# Altium integrated library Analog Devices Temperature Sensors.IntLib: 271 symbols (part 1 of 14)
Pins are listed as number, name and electrical type; pins without a type are passive.

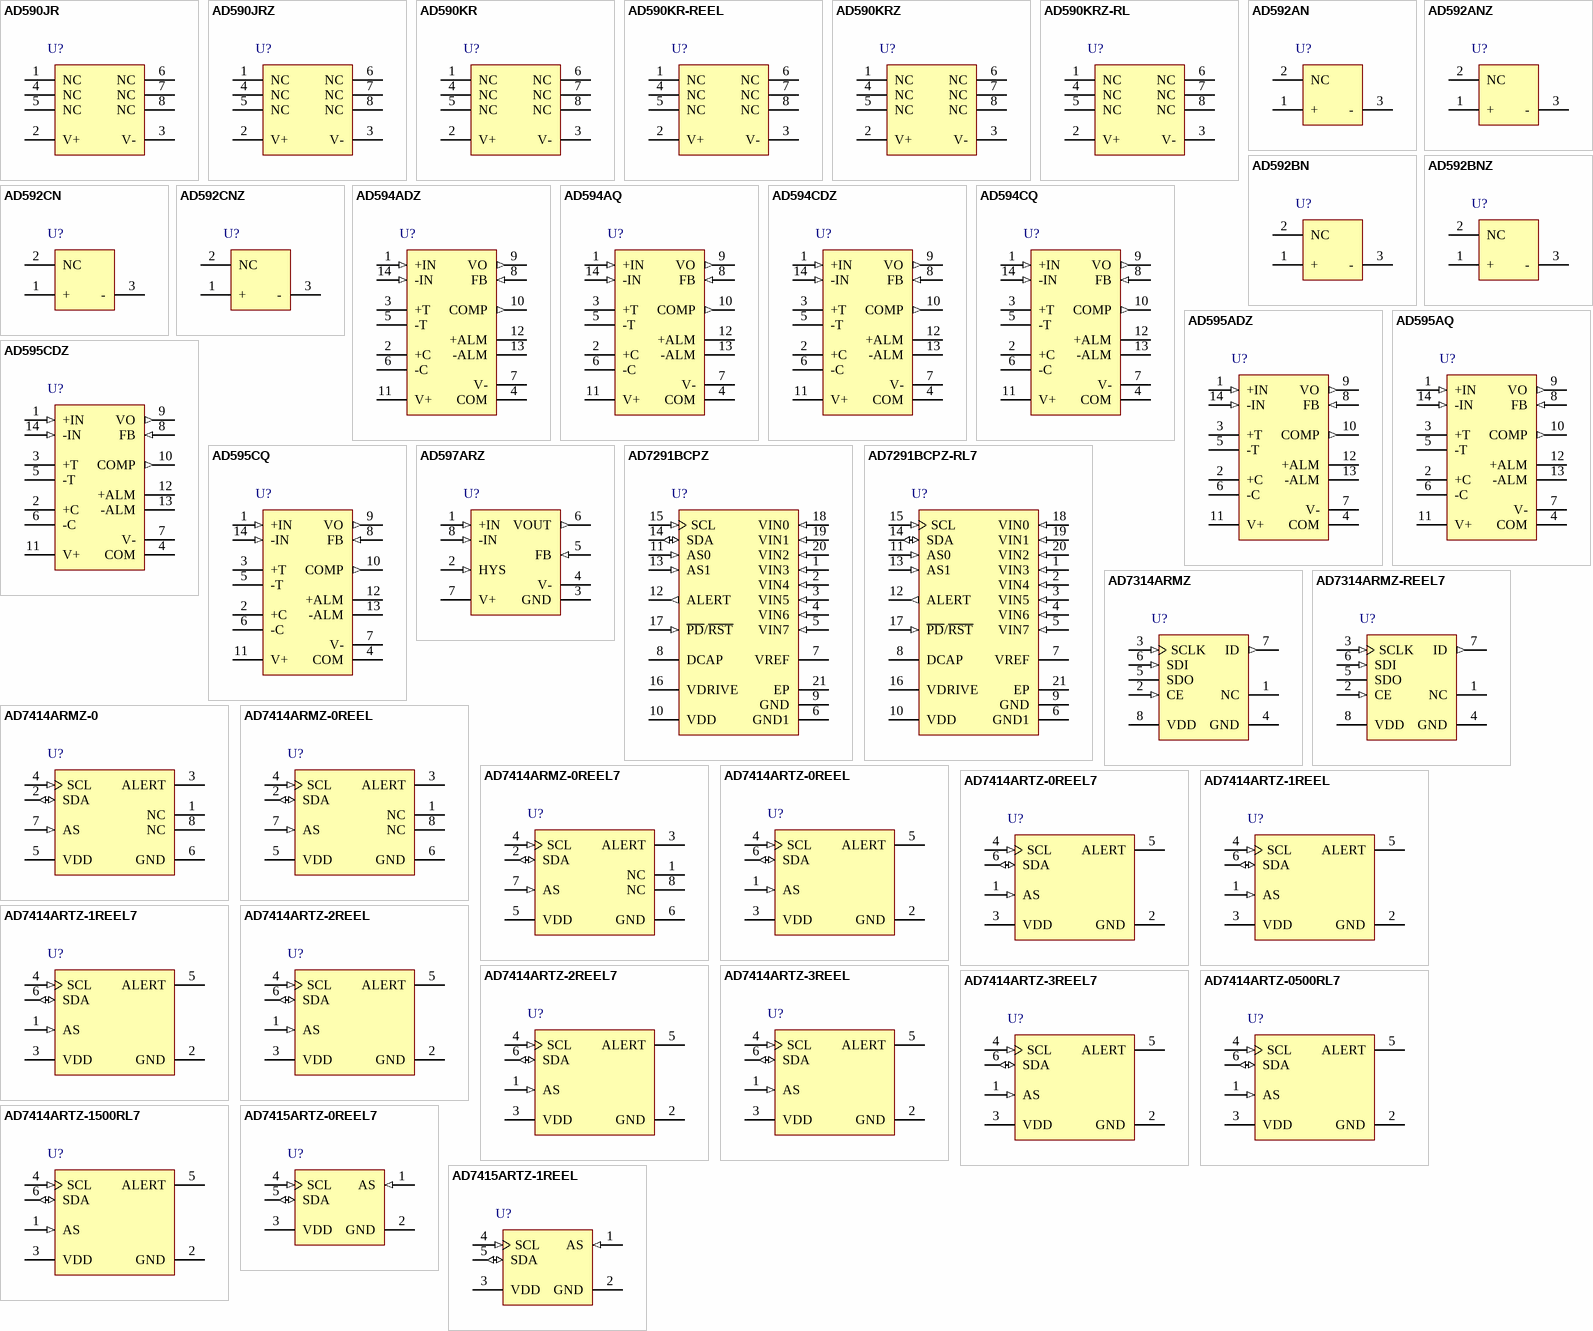
[diagram p0: symbols AD590JR to AD7415ARTZ-1REEL]

## AD590JR
designator U?
2-Terminal IC Temperature Transducer, 4 to 30 V Supply, Military, 8-pin SOIC (R-8), Tube; Manufacturer: Analog Devices; PartNumber: AD590JR; Supply Voltage Range: 4 to 30 V; DatasheetVersion: Rev. G; PackageVersion: 060506-A, 06/2006; PackageReference: R-8; PackageDescription: 8-Pin Standard Small Outline Package, Body 4.9 x 3.9 mm, Pitch 1.27 mm; Supplier 1: Digi-Key; Supplier Part Number 1: AD590JR-ND; Supplier 2: Mouser; Supplier Part Number 2: 584-AD590JR; Packing: Tube; Mounting Technology: Surface Mount; Code_JEDEC: MS-012-AA; ComponentLink1Description: Manufacturer URL; ComponentLink1URL: http://www.analog.com/en/index.html; ComponentLink2Description: Datasheet; ComponentLink2URL: http://www.analog.com/static/imported-files/data_sheets/AD590.pdf; ComponentLink3Description: Package Specification; ComponentLink3URL: http://www.analog.com/static/imported-files/packages/PKG_PDF/SOIC_Narrow%20(R)/R_8.pdf; ComponentLink4Description: Product URL; ComponentLink4URL: http://www.analog.com/en/mems-sensors/digital-temperature-sensors/ad590/products/product.html
footprint ADI-R-8_N (SOIC, 8-Leads, Body 4.9x3.9mm, Pitch 1.27mm, IPC Medium Density)
footprint ADI-R-8_L (SOIC, 8-Leads, Body 4.9x3.9mm, Pitch 1.27mm, IPC High Density)
footprint ADI-R-8_M (SOIC, 8-Leads, Body 4.9x3.9mm, Pitch 1.27mm, IPC Low Density)
pins: 1 NC, 2 V+, 3 V-, 4 NC, 5 NC, 6 NC, 7 NC, 8 NC

## AD590JRZ
designator U?
2-Terminal IC Temperature Transducer, 4 to 30 V Supply, Military, 8-pin SOIC (R-8), Tube; Manufacturer: Analog Devices; PartNumber: AD590JRZ; Supply Voltage Range: 4 to 30 V; DatasheetVersion: Rev. G; PackageVersion: 060506-A, 06/2006; PackageReference: R-8; PackageDescription: 8-Pin Standard Small Outline Package, Body 4.9 x 3.9 mm, Pitch 1.27 mm; Supplier 1: Digi-Key; Supplier Part Number 1: AD590JRZ-ND; Supplier 2: Farnell; Supplier Part Number 2: 1699553; Supplier 3: Newark; Supplier Part Number 3: 29M8422; Supplier 4: Mouser; Supplier Part Number 4: 584-AD590JRZ; Packing: Tube; Mounting Technology: Surface Mount; Code_JEDEC: MS-012-AA; ComponentLink1Description: Manufacturer URL; ComponentLink1URL: http://www.analog.com/en/index.html; ComponentLink2Description: Datasheet; ComponentLink2URL: http://www.analog.com/static/imported-files/data_sheets/AD590.pdf; ComponentLink3Description: Package Specification; ComponentLink3URL: http://www.analog.com/static/imported-files/packages/PKG_PDF/SOIC_Narrow%20(R)/R_8.pdf; ComponentLink4Description: Product URL; ComponentLink4URL: http://www.analog.com/en/mems-sensors/digital-temperature-sensors/ad590/products/product.html
footprint ADI-R-8_N (SOIC, 8-Leads, Body 4.9x3.9mm, Pitch 1.27mm, IPC Medium Density)
footprint ADI-R-8_L (SOIC, 8-Leads, Body 4.9x3.9mm, Pitch 1.27mm, IPC High Density)
footprint ADI-R-8_M (SOIC, 8-Leads, Body 4.9x3.9mm, Pitch 1.27mm, IPC Low Density)
pins: 1 NC, 2 V+, 3 V-, 4 NC, 5 NC, 6 NC, 7 NC, 8 NC

## AD590KR
designator U?
2-Terminal IC Temperature Transducer, 4 to 30 V Supply, Military, 8-pin SOIC (R-8), Tube; Manufacturer: Analog Devices; PartNumber: AD590KR; Supply Voltage Range: 4 to 30 V; DatasheetVersion: Rev. G; PackageVersion: 060506-A, 06/2006; PackageReference: R-8; PackageDescription: 8-Pin Standard Small Outline Package, Body 4.9 x 3.9 mm, Pitch 1.27 mm; Supplier 1: Digi-Key; Supplier Part Number 1: AD590KR-ND; Supplier 2: Mouser; Supplier Part Number 2: 584-AD590KR; Packing: Tube; Mounting Technology: Surface Mount; Code_JEDEC: MS-012-AA; ComponentLink1Description: Manufacturer URL; ComponentLink1URL: http://www.analog.com/en/index.html; ComponentLink2Description: Datasheet; ComponentLink2URL: http://www.analog.com/static/imported-files/data_sheets/AD590.pdf; ComponentLink3Description: Package Specification; ComponentLink3URL: http://www.analog.com/static/imported-files/packages/PKG_PDF/SOIC_Narrow%20(R)/R_8.pdf; ComponentLink4Description: Product URL; ComponentLink4URL: http://www.analog.com/en/mems-sensors/digital-temperature-sensors/ad590/products/product.html
footprint ADI-R-8_N (SOIC, 8-Leads, Body 4.9x3.9mm, Pitch 1.27mm, IPC Medium Density)
footprint ADI-R-8_L (SOIC, 8-Leads, Body 4.9x3.9mm, Pitch 1.27mm, IPC High Density)
footprint ADI-R-8_M (SOIC, 8-Leads, Body 4.9x3.9mm, Pitch 1.27mm, IPC Low Density)
pins: 1 NC, 2 V+, 3 V-, 4 NC, 5 NC, 6 NC, 7 NC, 8 NC

## AD590KR-REEL
designator U?
2-Terminal IC Temperature Transducer, 4 to 30 V Supply, Military, 8-pin SOIC (R-8), Reel; Manufacturer: Analog Devices; PartNumber: AD590KR-REEL; Supply Voltage Range: 4 to 30 V; DatasheetVersion: Rev. G; PackageVersion: 060506-A, 06/2006; PackageReference: R-8; PackageDescription: 8-Pin Standard Small Outline Package, Body 4.9 x 3.9 mm, Pitch 1.27 mm; Supplier 1: Mouser; Supplier Part Number 1: N/A; Packing: Reel; Mounting Technology: Surface Mount; Code_JEDEC: MS-012-AA; ComponentLink1Description: Manufacturer URL; ComponentLink1URL: http://www.analog.com/en/index.html; ComponentLink2Description: Datasheet; ComponentLink2URL: http://www.analog.com/static/imported-files/data_sheets/AD590.pdf; ComponentLink3Description: Package Specification; ComponentLink3URL: http://www.analog.com/static/imported-files/packages/PKG_PDF/SOIC_Narrow%20(R)/R_8.pdf; ComponentLink4Description: Product URL; ComponentLink4URL: http://www.analog.com/en/mems-sensors/digital-temperature-sensors/ad590/products/product.html
footprint ADI-R-8_N (SOIC, 8-Leads, Body 4.9x3.9mm, Pitch 1.27mm, IPC Medium Density)
footprint ADI-R-8_L (SOIC, 8-Leads, Body 4.9x3.9mm, Pitch 1.27mm, IPC High Density)
footprint ADI-R-8_M (SOIC, 8-Leads, Body 4.9x3.9mm, Pitch 1.27mm, IPC Low Density)
pins: 1 NC, 2 V+, 3 V-, 4 NC, 5 NC, 6 NC, 7 NC, 8 NC

## AD590KRZ
designator U?
2-Terminal IC Temperature Transducer, 4 to 30 V Supply, Military, 8-pin SOIC (R-8), Tube; Manufacturer: Analog Devices; PartNumber: AD590KRZ; Supply Voltage Range: 4 to 30 V; DatasheetVersion: Rev. G; PackageVersion: 060506-A, 06/2006; PackageReference: R-8; PackageDescription: 8-Pin Standard Small Outline Package, Body 4.9 x 3.9 mm, Pitch 1.27 mm; Supplier 1: Digi-Key; Supplier Part Number 1: AD590KRZ-ND; Supplier 2: Newark; Supplier Part Number 2: 27M3832; Supplier 3: Mouser; Supplier Part Number 3: 584-AD590KRZ; Packing: Tube; Mounting Technology: Surface Mount; Code_JEDEC: MS-012-AA; ComponentLink1Description: Manufacturer URL; ComponentLink1URL: http://www.analog.com/en/index.html; ComponentLink2Description: Datasheet; ComponentLink2URL: http://www.analog.com/static/imported-files/data_sheets/AD590.pdf; ComponentLink3Description: Package Specification; ComponentLink3URL: http://www.analog.com/static/imported-files/packages/PKG_PDF/SOIC_Narrow%20(R)/R_8.pdf; ComponentLink4Description: Product URL; ComponentLink4URL: http://www.analog.com/en/mems-sensors/digital-temperature-sensors/ad590/products/product.html
footprint ADI-R-8_N (SOIC, 8-Leads, Body 4.9x3.9mm, Pitch 1.27mm, IPC Medium Density)
footprint ADI-R-8_L (SOIC, 8-Leads, Body 4.9x3.9mm, Pitch 1.27mm, IPC High Density)
footprint ADI-R-8_M (SOIC, 8-Leads, Body 4.9x3.9mm, Pitch 1.27mm, IPC Low Density)
pins: 1 NC, 2 V+, 3 V-, 4 NC, 5 NC, 6 NC, 7 NC, 8 NC

## AD590KRZ-RL
designator U?
2-Terminal IC Temperature Transducer, 4 to 30 V Supply, Military, 8-pin SOIC (R-8), Reel; Manufacturer: Analog Devices; PartNumber: AD590KRZ-RL; Supply Voltage Range: 4 to 30 V; DatasheetVersion: Rev. G; PackageVersion: 060506-A, 06/2006; PackageReference: R-8; PackageDescription: 8-Pin Standard Small Outline Package, Body 4.9 x 3.9 mm, Pitch 1.27 mm; Supplier 1: Digi-Key; Supplier Part Number 1: AD590KRZ-RL-ND; Supplier 2: Mouser; Supplier Part Number 2: 584-AD590KRZ-R; Packing: Reel; Mounting Technology: Surface Mount; Code_JEDEC: MS-012-AA; ComponentLink1Description: Manufacturer URL; ComponentLink1URL: http://www.analog.com/en/index.html; ComponentLink2Description: Datasheet; ComponentLink2URL: http://www.analog.com/static/imported-files/data_sheets/AD590.pdf; ComponentLink3Description: Package Specification; ComponentLink3URL: http://www.analog.com/static/imported-files/packages/PKG_PDF/SOIC_Narrow%20(R)/R_8.pdf; ComponentLink4Description: Product URL; ComponentLink4URL: http://www.analog.com/en/mems-sensors/digital-temperature-sensors/ad590/products/product.html
footprint ADI-R-8_N (SOIC, 8-Leads, Body 4.9x3.9mm, Pitch 1.27mm, IPC Medium Density)
footprint ADI-R-8_L (SOIC, 8-Leads, Body 4.9x3.9mm, Pitch 1.27mm, IPC High Density)
footprint ADI-R-8_M (SOIC, 8-Leads, Body 4.9x3.9mm, Pitch 1.27mm, IPC Low Density)
pins: 1 NC, 2 V+, 3 V-, 4 NC, 5 NC, 6 NC, 7 NC, 8 NC

## AD592AN
designator U?
Low Cost, Precision IC Temperature Transducer, 4 to 30 V Supply, Industrial, 3-pin TO92 (T-3), Tray; Manufacturer: Analog Devices; PartNumber: AD592AN; Supply Voltage Range: 4 to 30 V; DatasheetVersion: Rev. A; PackageVersion: 042208-A, 04/2008; PackageReference: T-3; PackageDescription: 3-Pin Plastic Header-Style Package, 1.27 mm Pitch; Supplier 1: Digi-Key; Supplier Part Number 1: AD592AN-ND; Supplier 2: Mouser; Supplier Part Number 2: 584-AD592AN; Packing: Tray; Mounting Technology: Through Hole; Code_JEDEC: TO-226-AA; ComponentLink1Description: Manufacturer URL; ComponentLink1URL: http://www.analog.com/en/index.html; ComponentLink2Description: Datasheet; ComponentLink2URL: http://www.analog.com/static/imported-files/data_sheets/AD592.pdf; ComponentLink3Description: Package Specification; ComponentLink3URL: http://www.analog.com/static/imported-files/packages/PKG_PDF/TO-92(T)/T_3.pdf; ComponentLink4Description: Product URL; ComponentLink4URL: http://www.analog.com/en/mems-sensors/digital-temperature-sensors/ad592/products/product.html
footprint ADI-T-3 (TO, Flat Index; 3 In-Line, Axial Leads; Body Dia. 5.1mm; Leads 0.48 x 0.48 mm (max))
pins: 1 +, 2 NC, 3 -

## AD592ANZ
designator U?
Low Cost, Precision IC Temperature Transducer, 4 to 30 V Supply, Industrial, 3-pin TO92 (T-3), Tray; Manufacturer: Analog Devices; PartNumber: AD592ANZ; Supply Voltage Range: 4 to 30 V; DatasheetVersion: Rev. A; PackageVersion: 042208-A, 04/2008; PackageReference: T-3; PackageDescription: 3-Pin Plastic Header-Style Package, 1.27 mm Pitch; Supplier 1: Digi-Key; Supplier Part Number 1: AD592ANZ-ND; Supplier 2: Farnell; Supplier Part Number 2: 9605428; Supplier 3: Newark; Supplier Part Number 3: 59K4346; Supplier 4: Mouser; Supplier Part Number 4: 584-AD592ANZ; Packing: Tray; Mounting Technology: Through Hole; Code_JEDEC: TO-226-AA; ComponentLink1Description: Manufacturer URL; ComponentLink1URL: http://www.analog.com/en/index.html; ComponentLink2Description: Datasheet; ComponentLink2URL: http://www.analog.com/static/imported-files/data_sheets/AD592.pdf; ComponentLink3Description: Package Specification; ComponentLink3URL: http://www.analog.com/static/imported-files/packages/PKG_PDF/TO-92(T)/T_3.pdf; ComponentLink4Description: Product URL; ComponentLink4URL: http://www.analog.com/en/mems-sensors/digital-temperature-sensors/ad592/products/product.html
footprint ADI-T-3 (TO, Flat Index; 3 In-Line, Axial Leads; Body Dia. 5.1mm; Leads 0.48 x 0.48 mm (max))
pins: 1 +, 2 NC, 3 -

## AD592BN
designator U?
Low Cost, Precision IC Temperature Transducer, 4 to 30 V Supply, Industrial, 3-pin TO92 (T-3), Tray; Manufacturer: Analog Devices; PartNumber: AD592BN; Supply Voltage Range: 4 to 30 V; DatasheetVersion: Rev. A; PackageVersion: 042208-A, 04/2008; PackageReference: T-3; PackageDescription: 3-Pin Plastic Header-Style Package, 1.27 mm Pitch; Supplier 1: Digi-Key; Supplier Part Number 1: AD592BN-ND; Supplier 2: Mouser; Supplier Part Number 2: 584-AD592BN; Packing: Tray; Mounting Technology: Through Hole; Code_JEDEC: TO-226-AA; ComponentLink1Description: Manufacturer URL; ComponentLink1URL: http://www.analog.com/en/index.html; ComponentLink2Description: Datasheet; ComponentLink2URL: http://www.analog.com/static/imported-files/data_sheets/AD592.pdf; ComponentLink3Description: Package Specification; ComponentLink3URL: http://www.analog.com/static/imported-files/packages/PKG_PDF/TO-92(T)/T_3.pdf; ComponentLink4Description: Product URL; ComponentLink4URL: http://www.analog.com/en/mems-sensors/digital-temperature-sensors/ad592/products/product.html
footprint ADI-T-3 (TO, Flat Index; 3 In-Line, Axial Leads; Body Dia. 5.1mm; Leads 0.48 x 0.48 mm (max))
pins: 1 +, 2 NC, 3 -

## AD592BNZ
designator U?
Low Cost, Precision IC Temperature Transducer, 4 to 30 V Supply, Industrial, 3-pin TO92 (T-3), Tray; Manufacturer: Analog Devices; PartNumber: AD592BNZ; Supply Voltage Range: 4 to 30 V; DatasheetVersion: Rev. A; PackageVersion: 042208-A, 04/2008; PackageReference: T-3; PackageDescription: 3-Pin Plastic Header-Style Package, 1.27 mm Pitch; Supplier 1: Digi-Key; Supplier Part Number 1: AD592BNZ-ND; Supplier 2: Farnell; Supplier Part Number 2: 2377128; Supplier 3: Newark; Supplier Part Number 3: 59K4347; Supplier 4: Mouser; Supplier Part Number 4: 584-AD592BNZ; Packing: Tray; Mounting Technology: Through Hole; Code_JEDEC: TO-226-AA; ComponentLink1Description: Manufacturer URL; ComponentLink1URL: http://www.analog.com/en/index.html; ComponentLink2Description: Datasheet; ComponentLink2URL: http://www.analog.com/static/imported-files/data_sheets/AD592.pdf; ComponentLink3Description: Package Specification; ComponentLink3URL: http://www.analog.com/static/imported-files/packages/PKG_PDF/TO-92(T)/T_3.pdf; ComponentLink4Description: Product URL; ComponentLink4URL: http://www.analog.com/en/mems-sensors/digital-temperature-sensors/ad592/products/product.html
footprint ADI-T-3 (TO, Flat Index; 3 In-Line, Axial Leads; Body Dia. 5.1mm; Leads 0.48 x 0.48 mm (max))
pins: 1 +, 2 NC, 3 -

## AD592CN
designator U?
Low Cost, Precision IC Temperature Transducer, 4 to 30 V Supply, Industrial, 3-pin TO92 (T-3), Tray; Manufacturer: Analog Devices; PartNumber: AD592CN; Supply Voltage Range: 4 to 30 V; DatasheetVersion: Rev. A; PackageVersion: 042208-A, 04/2008; PackageReference: T-3; PackageDescription: 3-Pin Plastic Header-Style Package, 1.27 mm Pitch; Supplier 1: Digi-Key; Supplier Part Number 1: AD592CN-ND; Supplier 2: Mouser; Supplier Part Number 2: 584-AD592CN; Packing: Tray; Mounting Technology: Through Hole; Code_JEDEC: TO-226-AA; ComponentLink1Description: Manufacturer URL; ComponentLink1URL: http://www.analog.com/en/index.html; ComponentLink2Description: Datasheet; ComponentLink2URL: http://www.analog.com/static/imported-files/data_sheets/AD592.pdf; ComponentLink3Description: Package Specification; ComponentLink3URL: http://www.analog.com/static/imported-files/packages/PKG_PDF/TO-92(T)/T_3.pdf; ComponentLink4Description: Product URL; ComponentLink4URL: http://www.analog.com/en/mems-sensors/digital-temperature-sensors/ad592/products/product.html
footprint ADI-T-3 (TO, Flat Index; 3 In-Line, Axial Leads; Body Dia. 5.1mm; Leads 0.48 x 0.48 mm (max))
pins: 1 +, 2 NC, 3 -

## AD592CNZ
designator U?
Low Cost, Precision IC Temperature Transducer, 4 to 30 V Supply, Industrial, 3-pin TO92 (T-3), Tray; Manufacturer: Analog Devices; PartNumber: AD592CNZ; Supply Voltage Range: 4 to 30 V; DatasheetVersion: Rev. A; PackageVersion: 042208-A, 04/2008; PackageReference: T-3; PackageDescription: 3-Pin Plastic Header-Style Package, 1.27 mm Pitch; Supplier 1: Digi-Key; Supplier Part Number 1: AD592CNZ-ND; Supplier 2: Farnell; Supplier Part Number 2: 9603948; Supplier 3: Newark; Supplier Part Number 3: 59K4348; Supplier 4: Mouser; Supplier Part Number 4: 584-AD592CNZ; Packing: Tray; Mounting Technology: Through Hole; Code_JEDEC: TO-226-AA; ComponentLink1Description: Manufacturer URL; ComponentLink1URL: http://www.analog.com/en/index.html; ComponentLink2Description: Datasheet; ComponentLink2URL: http://www.analog.com/static/imported-files/data_sheets/AD592.pdf; ComponentLink3Description: Package Specification; ComponentLink3URL: http://www.analog.com/static/imported-files/packages/PKG_PDF/TO-92(T)/T_3.pdf; ComponentLink4Description: Product URL; ComponentLink4URL: http://www.analog.com/en/mems-sensors/digital-temperature-sensors/ad592/products/product.html
footprint ADI-T-3 (TO, Flat Index; 3 In-Line, Axial Leads; Body Dia. 5.1mm; Leads 0.48 x 0.48 mm (max))
pins: 1 +, 2 NC, 3 -

## AD594ADZ
designator U?
J-Type Thermocouple Amplifier with Cold Junction Compensation, 5 to +/-15 V Supply, Industrial, 14-pin DIP (D-14), Tube; Manufacturer: Analog Devices; PartNumber: AD594ADZ; Supply Voltage Range: +5 to +/-15 V; DatasheetVersion: Rev. C; PackageVersion: 03/2005; PackageReference: D-14; PackageDescription: 14-Lead Side-Brazed Ceramic Dual In-Line Package, Body 19.43 x 6.73 mm, Pitch 2.54 mm; Supplier 1: Digi-Key; Supplier Part Number 1: AD594ADZ-ND; Supplier 2: Farnell; Supplier Part Number 2: 1311021; Supplier 3: Newark; Supplier Part Number 3: 13M6185; Supplier 4: Mouser; Supplier Part Number 4: 584-AD594ADZ; Packing: Tube; Mounting Technology: Through Hole; ComponentLink1Description: Manufacturer URL; ComponentLink1URL: http://www.analog.com/en/index.html; ComponentLink2Description: Datasheet; ComponentLink2URL: http://www.analog.com/static/imported-files/data_sheets/AD594_595.pdf; ComponentLink3Description: Package Specification; ComponentLink3URL: http:/www.analog.com/static/imported-files/packages/51235406179213D_14.pdf; ComponentLink4Description: Product URL; ComponentLink4URL: http://www.analog.com/en/mems-sensors/digital-temperature-sensors/ad594/products/product.html
footprint ADI-D-14 (DIP, 14-Leads, Body 19.43x6.73mm, Pitch 2.54mm)
pins: 1 +IN (in), 2 +C, 3 +T, 4 COM (power), 5 -T, 6 -C, 7 V- (power), 8 FB (in), 9 VO (out), 10 COMP (out), 11 V+ (power), 12 +ALM, 13 -ALM, 14 -IN (in)

## AD594AQ
designator U?
J-Type Thermocouple Amplifier with Cold Junction Compensation, 5 to +/-15 V Supply, Industrial, 14-pin DIP (Q-14), Tube; Manufacturer: Analog Devices; PartNumber: AD594AQ; Supply Voltage Range: +5 to +/-15 V; DatasheetVersion: Rev. C; PackageVersion: 08/2005; PackageReference: Q-14; PackageDescription: 14-Pin Ceramic Dual In-Line Package, Row spacing 7.62 mm, Pitch 2.54 mm; Supplier 1: Digi-Key; Supplier Part Number 1: AD594AQ-ND; Supplier 2: Farnell; Supplier Part Number 2: 409182; Supplier 3: Newark; Supplier Part Number 3: 05F7088; Supplier 4: Mouser; Supplier Part Number 4: 584-AD594AQ; Packing: Tube; Mounting Technology: Through Hole; ComponentLink1Description: Manufacturer URL; ComponentLink1URL: http://www.analog.com/en/index.html; ComponentLink2Description: Datasheet; ComponentLink2URL: http://www.analog.com/static/imported-files/data_sheets/AD594_595.pdf; ComponentLink3Description: Package Specification; ComponentLink3URL: http://www.analog.com/static/imported-files/packages/393665681442905251546090Q_14.pdf; ComponentLink4Description: Product URL; ComponentLink4URL: http://www.analog.com/en/mems-sensors/digital-temperature-sensors/ad594/products/product.html
footprint ADI-Q-14 (DIP, 14-Leads, Body 19.94x6.73mm, Pitch 2.54mm)
pins: 1 +IN (in), 2 +C, 3 +T, 4 COM (power), 5 -T, 6 -C, 7 V- (power), 8 FB (in), 9 VO (out), 10 COMP (out), 11 V+ (power), 12 +ALM, 13 -ALM, 14 -IN (in)

## AD594CDZ
designator U?
J-Type Thermocouple Amplifier with Cold Junction Compensation, 5 to +/-15 V Supply, Industrial, 14-pin DIP (D-14), Tube; Manufacturer: Analog Devices; PartNumber: AD594CDZ; Supply Voltage Range: +5 to +/-15 V; DatasheetVersion: Rev. C; PackageVersion: 03/2005; PackageReference: D-14; PackageDescription: 14-Lead Side-Brazed Ceramic Dual In-Line Package, Body 19.43 x 6.73 mm, Pitch 2.54 mm; Supplier 1: Digi-Key; Supplier Part Number 1: AD594CDZ-ND; Supplier 2: Newark; Supplier Part Number 2: 28M4021; Supplier 3: Mouser; Supplier Part Number 3: 584-AD594CDZ; Packing: Tube; Mounting Technology: Through Hole; ComponentLink1Description: Manufacturer URL; ComponentLink1URL: http://www.analog.com/en/index.html; ComponentLink2Description: Datasheet; ComponentLink2URL: http://www.analog.com/static/imported-files/data_sheets/AD594_595.pdf; ComponentLink3Description: Package Specification; ComponentLink3URL: http:/www.analog.com/static/imported-files/packages/51235406179213D_14.pdf; ComponentLink4Description: Product URL; ComponentLink4URL: http://www.analog.com/en/mems-sensors/digital-temperature-sensors/ad594/products/product.html
footprint ADI-D-14 (DIP, 14-Leads, Body 19.43x6.73mm, Pitch 2.54mm)
pins: 1 +IN (in), 2 +C, 3 +T, 4 COM (power), 5 -T, 6 -C, 7 V- (power), 8 FB (in), 9 VO (out), 10 COMP (out), 11 V+ (power), 12 +ALM, 13 -ALM, 14 -IN (in)

## AD594CQ
designator U?
J-Type Thermocouple Amplifier with Cold Junction Compensation, 5 to +/-15 V Supply, Industrial, 14-pin DIP (Q-14), Tube; Manufacturer: Analog Devices; PartNumber: AD594CQ; Supply Voltage Range: +5 to +/-15 V; DatasheetVersion: Rev. C; PackageVersion: 08/2005; PackageReference: Q-14; PackageDescription: 14-Pin Ceramic Dual In-Line Package, Row spacing 7.62 mm, Pitch 2.54 mm; Supplier 1: Digi-Key; Supplier Part Number 1: AD594CQ-ND; Supplier 2: Newark; Supplier Part Number 2: 66F4167; Supplier 3: Mouser; Supplier Part Number 3: 584-AD594CQ; Packing: Tube; Mounting Technology: Through Hole; ComponentLink1Description: Manufacturer URL; ComponentLink1URL: http://www.analog.com/en/index.html; ComponentLink2Description: Datasheet; ComponentLink2URL: http://www.analog.com/static/imported-files/data_sheets/AD594_595.pdf; ComponentLink3Description: Package Specification; ComponentLink3URL: http://www.analog.com/static/imported-files/packages/393665681442905251546090Q_14.pdf; ComponentLink4Description: Product URL; ComponentLink4URL: http://www.analog.com/en/mems-sensors/digital-temperature-sensors/ad594/products/product.html
footprint ADI-Q-14 (DIP, 14-Leads, Body 19.94x6.73mm, Pitch 2.54mm)
pins: 1 +IN (in), 2 +C, 3 +T, 4 COM (power), 5 -T, 6 -C, 7 V- (power), 8 FB (in), 9 VO (out), 10 COMP (out), 11 V+ (power), 12 +ALM, 13 -ALM, 14 -IN (in)

## AD595ADZ
designator U?
K-Type Thermocouple Amplifier with Cold Junction Compensation, 5 to +/-15 V Supply, Industrial, 14-pin DIP (D-14), Tube; Manufacturer: Analog Devices; PartNumber: AD595ADZ; Supply Voltage Range: +5 to +/-15 V; DatasheetVersion: Rev. C; PackageVersion: 03/2005; PackageReference: D-14; PackageDescription: 14-Lead Side-Brazed Ceramic Dual In-Line Package, Body 19.43 x 6.73 mm, Pitch 2.54 mm; Supplier 1: Digi-Key; Supplier Part Number 1: AD595ADZ-ND; Supplier 2: Farnell; Supplier Part Number 2: 1530013; Supplier 3: Newark; Supplier Part Number 3: 13M6186; Supplier 4: Mouser; Supplier Part Number 4: 584-AD595ADZ; Packing: Tube; Mounting Technology: Through Hole; ComponentLink1Description: Manufacturer URL; ComponentLink1URL: http://www.analog.com/en/index.html; ComponentLink2Description: Datasheet; ComponentLink2URL: http://www.analog.com/static/imported-files/data_sheets/AD594_595.pdf; ComponentLink3Description: Package Specification; ComponentLink3URL: http:/www.analog.com/static/imported-files/packages/51235406179213D_14.pdf; ComponentLink4Description: Product URL; ComponentLink4URL: http://www.analog.com/en/mems-sensors/digital-temperature-sensors/ad595/products/product.html
footprint ADI-D-14 (DIP, 14-Leads, Body 19.43x6.73mm, Pitch 2.54mm)
pins: 1 +IN (in), 2 +C, 3 +T, 4 COM (power), 5 -T, 6 -C, 7 V- (power), 8 FB (in), 9 VO (out), 10 COMP (out), 11 V+ (power), 12 +ALM, 13 -ALM, 14 -IN (in)

## AD595AQ
designator U?
K-Type Thermocouple Amplifier with Cold Junction Compensation, 5 to +/-15 V Supply, Industrial, 14-pin DIP (Q-14), Tube; Manufacturer: Analog Devices; PartNumber: AD595AQ; Supply Voltage Range: +5 to +/-15 V; DatasheetVersion: Rev. C; PackageVersion: 08/2005; PackageReference: Q-14; PackageDescription: 14-Pin Ceramic Dual In-Line Package, Row spacing 7.62 mm, Pitch 2.54 mm; Supplier 1: Digi-Key; Supplier Part Number 1: AD595AQ-ND; Supplier 2: Farnell; Supplier Part Number 2: 409194; Supplier 3: Newark; Supplier Part Number 3: 05F7091; Supplier 4: Mouser; Supplier Part Number 4: 584-AD595AQ; Packing: Tube; Mounting Technology: Through Hole; ComponentLink1Description: Manufacturer URL; ComponentLink1URL: http://www.analog.com/en/index.html; ComponentLink2Description: Datasheet; ComponentLink2URL: http://www.analog.com/static/imported-files/data_sheets/AD594_595.pdf; ComponentLink3Description: Package Specification; ComponentLink3URL: http://www.analog.com/static/imported-files/packages/393665681442905251546090Q_14.pdf; ComponentLink4Description: Product URL; ComponentLink4URL: http://www.analog.com/en/mems-sensors/digital-temperature-sensors/ad595/products/product.html
footprint ADI-Q-14 (DIP, 14-Leads, Body 19.94x6.73mm, Pitch 2.54mm)
pins: 1 +IN (in), 2 +C, 3 +T, 4 COM (power), 5 -T, 6 -C, 7 V- (power), 8 FB (in), 9 VO (out), 10 COMP (out), 11 V+ (power), 12 +ALM, 13 -ALM, 14 -IN (in)

## AD595CDZ
designator U?
K-Type Thermocouple Amplifier with Cold Junction Compensation, 5 to +/-15 V Supply, Industrial, 14-pin DIP (D-14), Tube; Manufacturer: Analog Devices; PartNumber: AD595CDZ; Supply Voltage Range: +5 to +/-15 V; DatasheetVersion: Rev. C; PackageVersion: 03/2005; PackageReference: D-14; PackageDescription: 14-Lead Side-Brazed Ceramic Dual In-Line Package, Body 19.43 x 6.73 mm, Pitch 2.54 mm; Supplier 1: Digi-Key; Supplier Part Number 1: AD595CDZ-ND; Supplier 2: Farnell; Supplier Part Number 2: 1838911; Supplier 3: Newark; Supplier Part Number 3: 18M6081; Supplier 4: Mouser; Supplier Part Number 4: 584-AD595CDZ; Packing: Tube; Mounting Technology: Through Hole; ComponentLink1Description: Manufacturer URL; ComponentLink1URL: http://www.analog.com/en/index.html; ComponentLink2Description: Datasheet; ComponentLink2URL: http://www.analog.com/static/imported-files/data_sheets/AD594_595.pdf; ComponentLink3Description: Package Specification; ComponentLink3URL: http:/www.analog.com/static/imported-files/packages/51235406179213D_14.pdf; ComponentLink4Description: Product URL; ComponentLink4URL: http://www.analog.com/en/mems-sensors/digital-temperature-sensors/ad595/products/product.html
footprint ADI-D-14 (DIP, 14-Leads, Body 19.43x6.73mm, Pitch 2.54mm)
pins: 1 +IN (in), 2 +C, 3 +T, 4 COM (power), 5 -T, 6 -C, 7 V- (power), 8 FB (in), 9 VO (out), 10 COMP (out), 11 V+ (power), 12 +ALM, 13 -ALM, 14 -IN (in)

## AD595CQ
designator U?
K-Type Thermocouple Amplifier with Cold Junction Compensation, 5 to +/-15 V Supply, Industrial, 14-pin DIP (Q-14), Tube; Manufacturer: Analog Devices; PartNumber: AD595CQ; Supply Voltage Range: +5 to +/-15 V; DatasheetVersion: Rev. C; PackageVersion: 08/2005; PackageReference: Q-14; PackageDescription: 14-Pin Ceramic Dual In-Line Package, Row spacing 7.62 mm, Pitch 2.54 mm; Supplier 1: Digi-Key; Supplier Part Number 1: AD595CQ-ND; Supplier 2: Farnell; Supplier Part Number 2: 102052; Supplier 3: Newark; Supplier Part Number 3: 05F7093; Supplier 4: Mouser; Supplier Part Number 4: 584-AD595CQ; Packing: Tube; Mounting Technology: Through Hole; ComponentLink1Description: Manufacturer URL; ComponentLink1URL: http://www.analog.com/en/index.html; ComponentLink2Description: Datasheet; ComponentLink2URL: http://www.analog.com/static/imported-files/data_sheets/AD594_595.pdf; ComponentLink3Description: Package Specification; ComponentLink3URL: http://www.analog.com/static/imported-files/packages/393665681442905251546090Q_14.pdf; ComponentLink4Description: Product URL; ComponentLink4URL: http://www.analog.com/en/mems-sensors/digital-temperature-sensors/ad595/products/product.html
footprint ADI-Q-14 (DIP, 14-Leads, Body 19.94x6.73mm, Pitch 2.54mm)
pins: 1 +IN (in), 2 +C, 3 +T, 4 COM (power), 5 -T, 6 -C, 7 V- (power), 8 FB (in), 9 VO (out), 10 COMP (out), 11 V+ (power), 12 +ALM, 13 -ALM, 14 -IN (in)

## AD597ARZ
designator U?
K-Type Thermocouple Conditioner and Setpoint Controller, 5 to 36 V Supply, Industrial, 8-pin SOIC (R-8), Tube; Manufacturer: Analog Devices; PartNumber: AD597ARZ; Supply Voltage Range: 5 to 36 V; DatasheetVersion: Rev. B; PackageVersion: 060506-A, 06/2006; PackageReference: R-8; PackageDescription: 8-Pin Standard Small Outline Package, Body 4.9 x 3.9 mm, Pitch 1.27 mm; Supplier 1: Digi-Key; Supplier Part Number 1: AD597ARZ-ND; Supplier 2: Farnell; Supplier Part Number 2: 1438419; Supplier 3: Newark; Supplier Part Number 3: 19M8821; Supplier 4: Mouser; Supplier Part Number 4: 584-AD597ARZ; Packing: Tube; Mounting Technology: Surface Mount; Code_JEDEC: MS-012-AA; ComponentLink1Description: Manufacturer URL; ComponentLink1URL: http://www.analog.com/en/index.html; ComponentLink2Description: Datasheet; ComponentLink2URL: http://www.analog.com/static/imported-files/data_sheets/AD596_597.pdf; ComponentLink3Description: Package Specification; ComponentLink3URL: http://www.analog.com/static/imported-files/packages/PKG_PDF/SOIC_Narrow%20(R)/R_8.pdf; ComponentLink4Description: Product URL; ComponentLink4URL: http://www.analog.com/en/mems-sensors/digital-temperature-sensors/ad597/products/product.html
footprint ADI-R-8_N (SOIC, 8-Leads, Body 4.9x3.9mm, Pitch 1.27mm, IPC Medium Density)
footprint ADI-R-8_L (SOIC, 8-Leads, Body 4.9x3.9mm, Pitch 1.27mm, IPC High Density)
footprint ADI-R-8_M (SOIC, 8-Leads, Body 4.9x3.9mm, Pitch 1.27mm, IPC Low Density)
pins: 1 +IN (in), 2 HYS (in), 3 GND (power), 4 V- (power), 5 FB (in), 6 VOUT (out), 7 V+ (power), 8 -IN (in)

## AD7291BCPZ
designator U?
8-Channel, I2C, 12-Bit SAR ADC with Temperature Sensor, -40 to 125 degC, 20-pin QFN (CP-20-8), Tray; Manufacturer: Analog Devices; PartNumber: AD7291BCPZ; #_ADC_channels: 8; DatasheetVersion: Rev. B; PackageVersion: 020509-B, 02/2009; PackageReference: CP-20-8; PackageDescription: 20-Pin Lead Frame Chip Scale Package, Body 4 x 4 mm, Pitch 0.5 mm; Supplier 1: Digi-Key; Supplier Part Number 1: AD7291BCPZ-ND; Supplier 2: Farnell; Supplier Part Number 2: 1897104; Supplier 3: Newark; Supplier Part Number 3: 31T9307; Supplier 4: Mouser; Supplier Part Number 4: 584-AD7291BCPZ; Packing: Tray; Mounting Technology: Surface Mount; Code_JEDEC: MO-220-WGGD; ComponentLink1Description: Manufacturer URL; ComponentLink1URL: http://www.analog.com/en/index.html; ComponentLink2Description: Datasheet; ComponentLink2URL: http://www.analog.com/static/imported-files/data_sheets/AD7291.pdf; ComponentLink3Description: Package Specification; ComponentLink3URL: http://www.analog.com/static/imported-files/packages/PKG_PDF/LFCSP(CP)/CP-20/CP_20_8.pdf; ComponentLink4Description: Product URL; ComponentLink4URL: http://www.analog.com/en/analog-to-digital-converters/ad-converters/ad7291/products/product.html
footprint ADI-CP-20-8_N (QFN, 20-Leads, Body 4x4mm, Pitch 0.5mm, Thermal Pad 2.55x2.55mm, IPC Medium Density)
footprint ADI-CP-20-8_L (QFN, 20-Leads, Body 4x4mm, Pitch 0.5mm, Thermal Pad 2.55x2.55mm, IPC High Density)
footprint ADI-CP-20-8_M (QFN, 20-Leads, Body 4x4mm, Pitch 0.5mm, Thermal Pad 2.55x2.55mm, IPC Low Density)
pins: 1 VIN3 (in) "Analog Inputs. The AD7291 has eight single-ended analog inputs that are multiplexed into the on-chip track-and-hold amplifier. Each input channel can accept analog inputs from 0 V to 2.5 V. Any unused input channels should (See Datasheet)", 2 VIN4 (in) "Analog Inputs. The AD7291 has eight single-ended analog inputs that are multiplexed into the on-chip track-and-hold amplifier. Each input channel can accept analog inputs from 0 V to 2.5 V. Any unused input channels should (See Datasheet)", 3 VIN5 (in) "Analog Inputs. The AD7291 has eight single-ended analog inputs that are multiplexed into the on-chip track-and-hold amplifier. Each input channel can accept analog inputs from 0 V to 2.5 V. Any unused input channels should (See Datasheet)", 4 VIN6 (in) "Analog Inputs. The AD7291 has eight single-ended analog inputs that are multiplexed into the on-chip track-and-hold amplifier. Each input channel can accept analog inputs from 0 V to 2.5 V. Any unused input channels should (See Datasheet)", 5 VIN7 (in) "Analog Inputs. The AD7291 has eight single-ended analog inputs that are multiplexed into the on-chip track-and-hold amplifier. Each input channel can accept analog inputs from 0 V to 2.5 V. Any unused input channels should (See Datasheet)", 6 GND1 (power) "Ground. Ground reference point for the internal reference circuitry on the AD7291. All analog input signals and the external reference signals should be referred to this GND1 voltage. The GND1 pin should be connected to the (See Datasheet)", 7 VREF (power) "Internal Reference/External Reference Supply. The nominal internal reference voltage of 2.5 V appears at this pin.Provided the output is buffered, the on-chip reference can be taken from this pin and applied externally to (See Datasheet)", 8 DCAP "Decoupling Capacitor Pin. Decoupling capacitors (1 uF recommended) are connected to this pin to decouple the internal LDO.", 9 GND (power) "Ground. Ground reference point for all analog and digital circuitry on the AD7291. The GND pin should be connected to the ground plane of the system. All ground pins should ideally be at the same potential and must not be (See Datasheet)", 10 VDD (power) "Supply Voltage, 2.8 V to 3.6 V. This supply should be decoupled to GND with 10 uF and 100 nF decoupling capacitors.", 11 AS0 (in) "Logic Input. Together, the logic state of these two inputs selects a unique I2C address for the AD7291.See Table 31 for details. The device address depends on the voltage applied to these pins.", 12 ALERT (out) "Digital Output. This pin acts as an out-of-range indicator and, if enabled, becomes active when the conversion result violates the DATAHIGH or DATALOW register values. See the Limit Registers (0x04 to 0x1E) section.", 13 AS1 (in) "Logic Input. Together, the logic state of these two inputs selects a unique I2C address for the AD7291.See Table 31 for details. The device address depends on the voltage applied to these pins.", 14 SDA (io) "Digital Input/Output. Serial bus bidirectional data. This open-drain output requires a pull-up resistor. The output coding is straight binary for the voltage channels and twos complement for the temperature sensor result.", 15 SCL (in) "Digital Input. Serial I2C Bus Clock. This input requires a pull-up resistor. The data transfer rate in I2C  mode is compatible with both 100 kHz and 400 kHz operating modes.", 16 VDRIVE (power) "Logic Power Supply Input. The voltage supplied at this pin determines the voltage at which the interface operates.This pin should be decoupled to GND. The voltage range on this pin is 1.65 V to 3.6 V and may be less than the (See Datasheet)", 17 ~{PD}/~{RST} (in) "Power-Down Pin. This pin places the part into a full power-down mode and enables power conservation when operation is not required. This pin can be used to reset the device by toggling the pin low for a minimum of 1 ns and a (See Datasheet)", 18 VIN0 (in) "Analog Inputs. The AD7291 has eight single-ended analog inputs that are multiplexed into the on-chip track-and-hold amplifier. Each input channel can accept analog inputs from 0 V to 2.5 V. Any unused input channels should (See Datasheet)", 19 VIN1 (in) "Analog Inputs. The AD7291 has eight single-ended analog inputs that are multiplexed into the on-chip track-and-hold amplifier. Each input channel can accept analog inputs from 0 V to 2.5 V. Any unused input channels should (See Datasheet)", 20 VIN2 (in) "Analog Inputs. The AD7291 has eight single-ended analog inputs that are multiplexed into the on-chip track-and-hold amplifier. Each input channel can accept analog inputs from 0 V to 2.5 V. Any unused input channels should (See Datasheet)", 21 EP (power) "Exposed Paddle. The exposed metal paddle on the bottom of the LFCSP package should be soldered to PCB ground for proper functionality and heat dissipation."

## AD7291BCPZ-RL7
designator U?
8-Channel, I2C, 12-Bit SAR ADC with Temperature Sensor, -40 to 125 degC, 20-pin QFN (CP-20-8), Reel; Manufacturer: Analog Devices; PartNumber: AD7291BCPZ-RL7; #_ADC_channels: 8; DatasheetVersion: Rev. B; PackageVersion: 020509-B, 02/2009; PackageReference: CP-20-8; PackageDescription: 20-Pin Lead Frame Chip Scale Package, Body 4 x 4 mm, Pitch 0.5 mm; Supplier 1: Digi-Key; Supplier Part Number 1: AD7291BCPZ-RL7-ND; Supplier 2: Newark; Supplier Part Number 2: 31T9308; Supplier 3: Mouser; Supplier Part Number 3: 584-AD7291BCPZ-R7; Packing: Reel; Mounting Technology: Surface Mount; Code_JEDEC: MO-220-WGGD; ComponentLink1Description: Manufacturer URL; ComponentLink1URL: http://www.analog.com/en/index.html; ComponentLink2Description: Datasheet; ComponentLink2URL: http://www.analog.com/static/imported-files/data_sheets/AD7291.pdf; ComponentLink3Description: Package Specification; ComponentLink3URL: http://www.analog.com/static/imported-files/packages/PKG_PDF/LFCSP(CP)/CP-20/CP_20_8.pdf; ComponentLink4Description: Product URL; ComponentLink4URL: http://www.analog.com/en/analog-to-digital-converters/ad-converters/ad7291/products/product.html
footprint ADI-CP-20-8_N (QFN, 20-Leads, Body 4x4mm, Pitch 0.5mm, Thermal Pad 2.55x2.55mm, IPC Medium Density)
footprint ADI-CP-20-8_L (QFN, 20-Leads, Body 4x4mm, Pitch 0.5mm, Thermal Pad 2.55x2.55mm, IPC High Density)
footprint ADI-CP-20-8_M (QFN, 20-Leads, Body 4x4mm, Pitch 0.5mm, Thermal Pad 2.55x2.55mm, IPC Low Density)
pins: 1 VIN3 (in) "Analog Inputs. The AD7291 has eight single-ended analog inputs that are multiplexed into the on-chip track-and-hold amplifier. Each input channel can accept analog inputs from 0 V to 2.5 V. Any unused input channels should (See Datasheet)", 2 VIN4 (in) "Analog Inputs. The AD7291 has eight single-ended analog inputs that are multiplexed into the on-chip track-and-hold amplifier. Each input channel can accept analog inputs from 0 V to 2.5 V. Any unused input channels should (See Datasheet)", 3 VIN5 (in) "Analog Inputs. The AD7291 has eight single-ended analog inputs that are multiplexed into the on-chip track-and-hold amplifier. Each input channel can accept analog inputs from 0 V to 2.5 V. Any unused input channels should (See Datasheet)", 4 VIN6 (in) "Analog Inputs. The AD7291 has eight single-ended analog inputs that are multiplexed into the on-chip track-and-hold amplifier. Each input channel can accept analog inputs from 0 V to 2.5 V. Any unused input channels should (See Datasheet)", 5 VIN7 (in) "Analog Inputs. The AD7291 has eight single-ended analog inputs that are multiplexed into the on-chip track-and-hold amplifier. Each input channel can accept analog inputs from 0 V to 2.5 V. Any unused input channels should (See Datasheet)", 6 GND1 (power) "Ground. Ground reference point for the internal reference circuitry on the AD7291. All analog input signals and the external reference signals should be referred to this GND1 voltage. The GND1 pin should be connected to the (See Datasheet)", 7 VREF (power) "Internal Reference/External Reference Supply. The nominal internal reference voltage of 2.5 V appears at this pin.Provided the output is buffered, the on-chip reference can be taken from this pin and applied externally to (See Datasheet)", 8 DCAP "Decoupling Capacitor Pin. Decoupling capacitors (1 uF recommended) are connected to this pin to decouple the internal LDO.", 9 GND (power) "Ground. Ground reference point for all analog and digital circuitry on the AD7291. The GND pin should be connected to the ground plane of the system. All ground pins should ideally be at the same potential and must not be (See Datasheet)", 10 VDD (power) "Supply Voltage, 2.8 V to 3.6 V. This supply should be decoupled to GND with 10 uF and 100 nF decoupling capacitors.", 11 AS0 (in) "Logic Input. Together, the logic state of these two inputs selects a unique I2C address for the AD7291.See Table 31 for details. The device address depends on the voltage applied to these pins.", 12 ALERT (out) "Digital Output. This pin acts as an out-of-range indicator and, if enabled, becomes active when the conversion result violates the DATAHIGH or DATALOW register values. See the Limit Registers (0x04 to 0x1E) section.", 13 AS1 (in) "Logic Input. Together, the logic state of these two inputs selects a unique I2C address for the AD7291.See Table 31 for details. The device address depends on the voltage applied to these pins.", 14 SDA (io) "Digital Input/Output. Serial bus bidirectional data. This open-drain output requires a pull-up resistor. The output coding is straight binary for the voltage channels and twos complement for the temperature sensor result.", 15 SCL (in) "Digital Input. Serial I2C Bus Clock. This input requires a pull-up resistor. The data transfer rate in I2C  mode is compatible with both 100 kHz and 400 kHz operating modes.", 16 VDRIVE (power) "Logic Power Supply Input. The voltage supplied at this pin determines the voltage at which the interface operates.This pin should be decoupled to GND. The voltage range on this pin is 1.65 V to 3.6 V and may be less than the (See Datasheet)", 17 ~{PD}/~{RST} (in) "Power-Down Pin. This pin places the part into a full power-down mode and enables power conservation when operation is not required. This pin can be used to reset the device by toggling the pin low for a minimum of 1 ns and a (See Datasheet)", 18 VIN0 (in) "Analog Inputs. The AD7291 has eight single-ended analog inputs that are multiplexed into the on-chip track-and-hold amplifier. Each input channel can accept analog inputs from 0 V to 2.5 V. Any unused input channels should (See Datasheet)", 19 VIN1 (in) "Analog Inputs. The AD7291 has eight single-ended analog inputs that are multiplexed into the on-chip track-and-hold amplifier. Each input channel can accept analog inputs from 0 V to 2.5 V. Any unused input channels should (See Datasheet)", 20 VIN2 (in) "Analog Inputs. The AD7291 has eight single-ended analog inputs that are multiplexed into the on-chip track-and-hold amplifier. Each input channel can accept analog inputs from 0 V to 2.5 V. Any unused input channels should (See Datasheet)", 21 EP (power) "Exposed Paddle. The exposed metal paddle on the bottom of the LFCSP package should be soldered to PCB ground for proper functionality and heat dissipation."

## AD7314ARMZ
designator U?
Low Voltage, 10-Bit Digital Temperature Sensor, 2.65 to 5.5 V Supply, Industrial, 8-pin SOP (RM-8), Tube; Manufacturer: Analog Devices; PartNumber: AD7314ARMZ; DatasheetVersion: Rev. A; PackageVersion: 08/2005; PackageReference: RM-8; PackageDescription: 8-Pin Mini Small Outline Package, Body 3 x 3 mm, Pitch 0.65 mm; Supplier 1: Digi-Key; Supplier Part Number 1: AD7314ARMZ-ND; Supplier 2: Farnell; Supplier Part Number 2: 9426345; Supplier 3: Newark; Supplier Part Number 3: 31M4236; Supplier 4: Newark; Supplier Part Number 4: 19M0855; Supplier 5: Mouser; Supplier Part Number 5: 584-AD7314ARMZ; Packing: Tube; Supply Voltage Range: 2.65 to 5.5 V; Mounting Technology: Surface Mount; Code_JEDEC: MO-187-AA; ComponentLink1Description: Manufacturer URL; ComponentLink1URL: http://www.analog.com/en/index.html; ComponentLink2Description: Datasheet; ComponentLink2URL: http://www.analog.com/static/imported-files/data_sheets/AD7314.pdf; ComponentLink3Description: Package Specification; ComponentLink3URL: http://www.analog.com/static/imported-files/packages/PKG_PDF/MSOP%28RM%29/RM_8.pdf; ComponentLink4Description: Product URL; ComponentLink4URL: http://www.analog.com/en/mems-sensors/digital-temperature-sensors/ad7314/products/product.html
footprint ADI-RM-8_N (SOP, 8-Leads, Body 3x3mm, Pitch 0.65mm, IPC Medium Density)
footprint ADI-RM-8_L (SOP, 8-Leads, Body 3x3mm, Pitch 0.65mm, IPC High Density)
footprint ADI-RM-8_M (SOP, 8-Leads, Body 3x3mm, Pitch 0.65mm, IPC Low Density)
pins: 1 NC "No Connect.", 2 CE (in) "Chip Enable Input. The device is selected when this input is high. The SCLK input is disabled when this pin is low.", 3 SCLK (in) "Serial Clock Input. This is the clock input for the serial port. The serial clock is used to clock data out of the temperature value register of the AD7314 and also to clock data into the control register on the part.", 4 GND (power) "Analog and Digital Ground.", 5 SDO (hiz) "Serial Data Output. Logic output. Data is clocked out of the temperature value register at this pin.", 6 SDI (in) "Serial Data Input. Serial data to be loaded to the parts’s control register is provided on this input.", 7 ID (out) "Identification. This pin can be used by a master device to identify the AD7314 in an SPI bus system. This pin has an internal pull-down resistor of 1 k ohm.", 8 VDD (power) "Positive Supply Voltage, 2.65 V to 5.5 V."

## AD7314ARMZ-REEL7
designator U?
Low Voltage, 10-Bit Digital Temperature Sensor, 2.65 to 5.5 V Supply, Industrial, 8-pin SOP (RM-8), Reel; Manufacturer: Analog Devices; PartNumber: AD7314ARMZ-REEL7; DatasheetVersion: Rev. A; PackageVersion: 08/2005; PackageReference: RM-8; PackageDescription: 8-Pin Mini Small Outline Package, Body 3 x 3 mm, Pitch 0.65 mm; Supplier 1: Digi-Key; Supplier Part Number 1: AD7314ARMZ-REEL7TR-ND; Supplier 2: Digi-Key; Supplier Part Number 2: AD7314ARMZ-REEL7CT-ND; Supplier 3: Digi-Key; Supplier Part Number 3: AD7314ARMZ-REEL7DKR-ND; Supplier 4: Newark; Supplier Part Number 4: 87H9984; Supplier 5: Mouser; Supplier Part Number 5: 584-AD7314ARMZ-R7; Packing: Reel; Supply Voltage Range: 2.65 to 5.5 V; Mounting Technology: Surface Mount; Code_JEDEC: MO-187-AA; ComponentLink1Description: Manufacturer URL; ComponentLink1URL: http://www.analog.com/en/index.html; ComponentLink2Description: Datasheet; ComponentLink2URL: http://www.analog.com/static/imported-files/data_sheets/AD7314.pdf; ComponentLink3Description: Package Specification; ComponentLink3URL: http://www.analog.com/static/imported-files/packages/PKG_PDF/MSOP%28RM%29/RM_8.pdf; ComponentLink4Description: Product URL; ComponentLink4URL: http://www.analog.com/en/mems-sensors/digital-temperature-sensors/ad7314/products/product.html
footprint ADI-RM-8_N (SOP, 8-Leads, Body 3x3mm, Pitch 0.65mm, IPC Medium Density)
footprint ADI-RM-8_L (SOP, 8-Leads, Body 3x3mm, Pitch 0.65mm, IPC High Density)
footprint ADI-RM-8_M (SOP, 8-Leads, Body 3x3mm, Pitch 0.65mm, IPC Low Density)
pins: 1 NC "No Connect.", 2 CE (in) "Chip Enable Input. The device is selected when this input is high. The SCLK input is disabled when this pin is low.", 3 SCLK (in) "Serial Clock Input. This is the clock input for the serial port. The serial clock is used to clock data out of the temperature value register of the AD7314 and also to clock data into the control register on the part.", 4 GND (power) "Analog and Digital Ground.", 5 SDO (hiz) "Serial Data Output. Logic output. Data is clocked out of the temperature value register at this pin.", 6 SDI (in) "Serial Data Input. Serial data to be loaded to the parts’s control register is provided on this input.", 7 ID (out) "Identification. This pin can be used by a master device to identify the AD7314 in an SPI bus system. This pin has an internal pull-down resistor of 1 k ohm.", 8 VDD (power) "Positive Supply Voltage, 2.65 V to 5.5 V."

## AD7414ARMZ-0
designator U?
+/-0.5 degrees C Accurate, 10-Bit Digital Temperature Sensor, 2.7 to 5.5 V Supply, Industrial, 8-pin SOP (RM-8), Tube; Manufacturer: Analog Devices; PartNumber: AD7414ARMZ-0; DatasheetVersion: Rev. F; PackageVersion: 08/2005; PackageReference: RM-8; PackageDescription: 8-Pin Mini Small Outline Package, Body 3 x 3 mm, Pitch 0.65 mm; Supplier 1: Digi-Key; Supplier Part Number 1: AD7414ARMZ-0-ND; Supplier 2: Farnell; Supplier Part Number 2: 2377018; Supplier 3: Newark; Supplier Part Number 3: 12M8797; Supplier 4: Mouser; Supplier Part Number 4: 584-AD7414ARMZ-0; Packing: Tube; Supply Voltage Range: 2.7 to 5.5 V; Mounting Technology: Surface Mount; Code_JEDEC: MO-187-AA; ComponentLink1Description: Manufacturer URL; ComponentLink1URL: http://www.analog.com/en/index.html; ComponentLink2Description: Datasheet; ComponentLink2URL: http://www.analog.com/static/imported-files/data_sheets/AD7414_7415.pdf; ComponentLink3Description: Package Specification; ComponentLink3URL: http://www.analog.com/static/imported-files/packages/PKG_PDF/MSOP%28RM%29/RM_8.pdf; ComponentLink4Description: Product URL; ComponentLink4URL: http://www.analog.com/en/mems-sensors/digital-temperature-sensors/ad7414/products/product.html
footprint ADI-RM-8_N (SOP, 8-Leads, Body 3x3mm, Pitch 0.65mm, IPC Medium Density)
footprint ADI-RM-8_L (SOP, 8-Leads, Body 3x3mm, Pitch 0.65mm, IPC High Density)
footprint ADI-RM-8_M (SOP, 8-Leads, Body 3x3mm, Pitch 0.65mm, IPC Low Density)
pins: 1 NC "No Connect", 2 SDA (io) "Digital I/O. Serial bus bidirectional data. Open-drain output.", 3 ALERT (oc) "AD7414 Digital Output. Overtemperature indicator becomes active when temperature exceeds THIGH. Open-drain output.", 4 SCL (in) "Digital Input. Serial bus clock.", 5 VDD (power) "Positive Supply Voltage, 2.7 V to 5.5 V.", 6 GND (power) "Analog and Digital Ground.", 7 AS (in) "Logic Input. Address select input that selects one of three I2C addresses for the AD7414/AD7415 (see Table 4). Recommend a pull-up or pull-down resistor of 1 k ohm.", 8 NC "No Connect"